# Altium footprint library GPSR_v3.PcbLib: 33 footprints (part 2 of 3)
Each footprint in its own frame and in the unit in brackets; x right, y up, seen from the top. Pads: shape width x height; smd on the part's side, far side on the other; paste and mask are expansions set on the pad; w line width, h text height; cw(c..) or ccw(c..) is an arc to the next point about the centre after c.
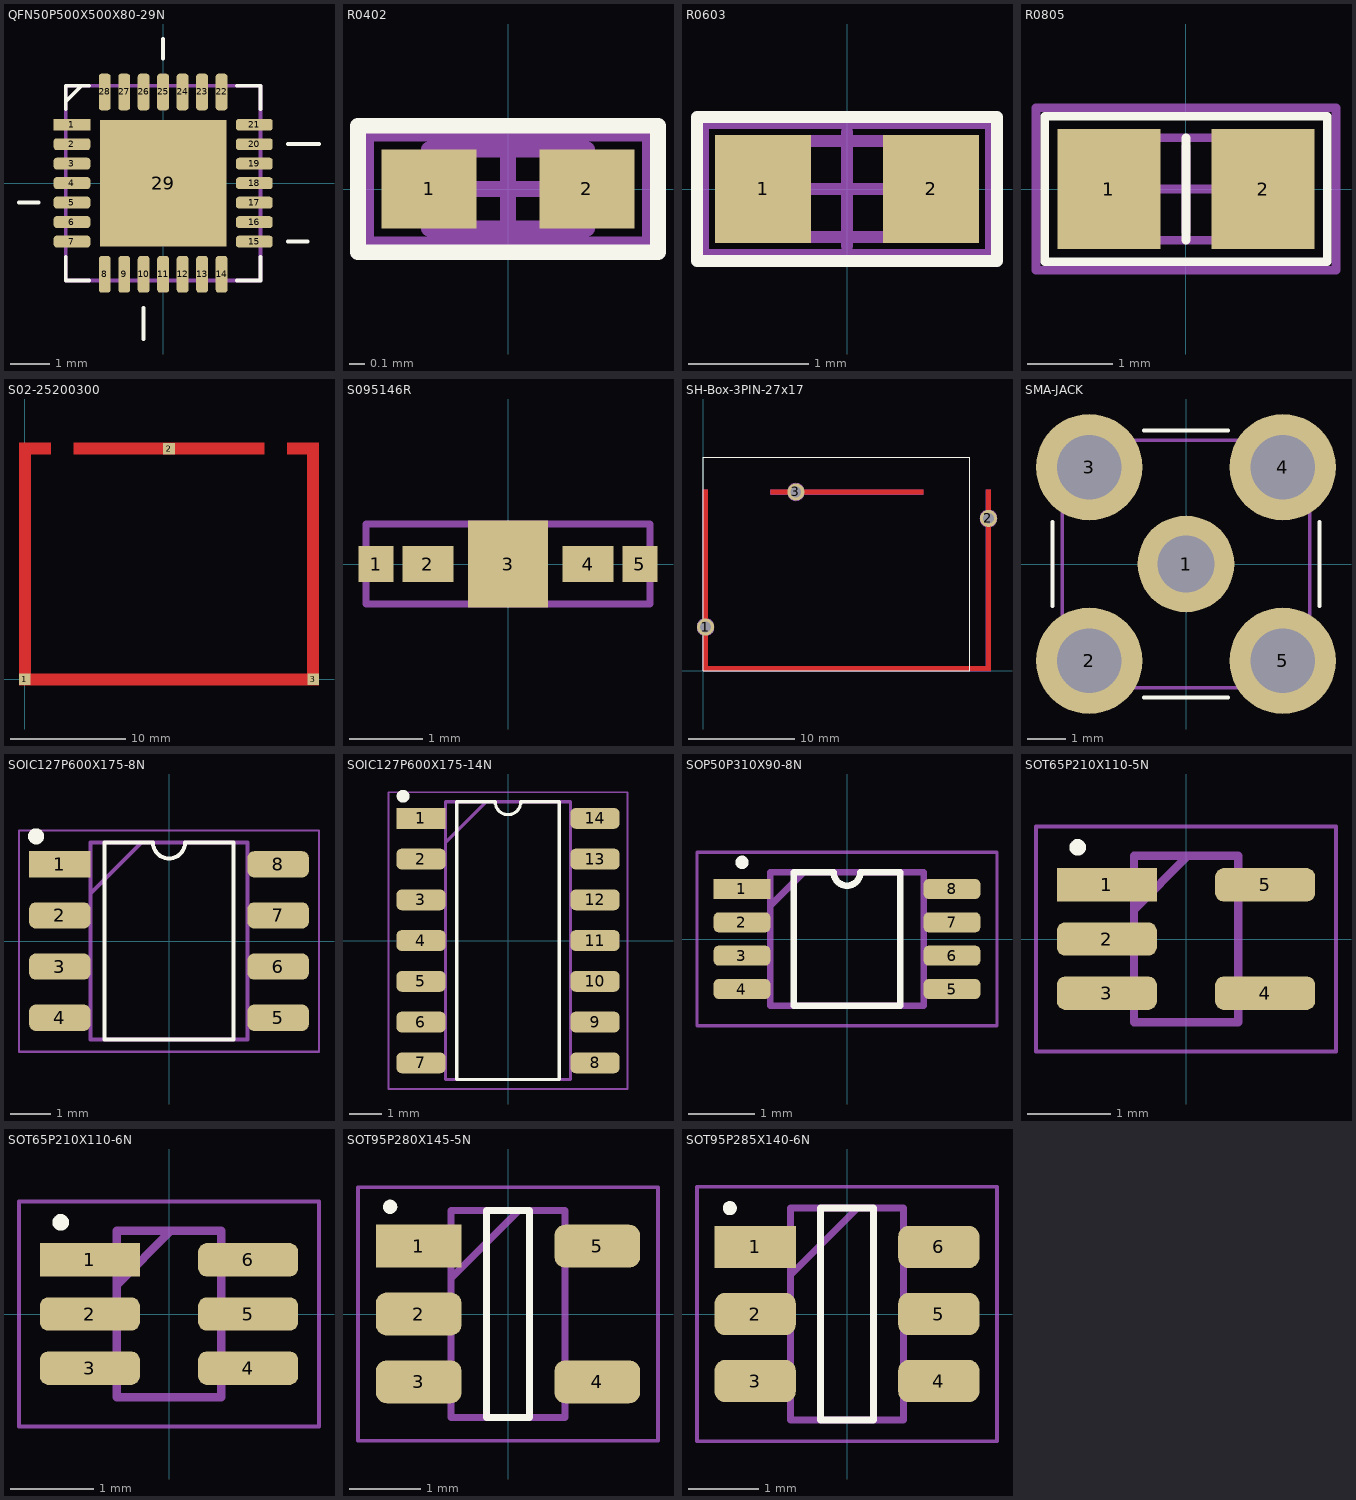
[diagram p1: the footprints below, top view; thin cyan lines are the x and y axes]

## PCBComponent_1 [mm]

## QFN50P500X500X80-29N [mil] "Small, 28-Pin, RoHS-Compliant, Thin QFN LeadFree Package (5mm x 5mm)"
height 283.46
pads (29):
  rect 37x12 smd: 1(-92.13,59.06)
  rrect50% 37x12 smd: 2(-92.13,39.37) 3(-92.13,19.68) 4(-92.13,0) 5(-92.13,-19.68) 6(-92.13,-39.37) 7(-92.13,-59.06) 15(92.13,-59.06) 16(92.13,-39.37) 17(92.13,-19.68) 18(92.13,0) 19(92.13,19.68) 20(92.13,39.37) 21(92.13,59.06)
  rrect50% 12x37 smd: 8(-59.06,-92.13) 9(-39.37,-92.13) 10(-19.68,-92.13) 11(0,-92.13) 12(19.68,-92.13) 13(39.37,-92.13) 14(59.06,-92.13) 22(59.06,92.13) 23(39.37,92.13) 24(19.68,92.13) 25(0,92.13) 26(-19.68,92.13) 27(-39.37,92.13) 28(-59.06,92.13)
  rect 128x128 smd: 29(0,0)
Top Overlay:
  lines w3.94: -145.67,-19.68 -125.98,-19.68 ; -98.43,-74.8 -98.43,-98.43 -74.8,-98.43 ; -98.43,74.8 -98.43,98.43 -74.8,98.43 ; -98.43,82.68 -82.68,98.43 ; -19.68,-157.48 -19.68,-125.98 ; 0,125.98 0,145.67 ; 74.8,-98.43 98.43,-98.43 98.43,-74.8 ; 74.8,98.43 98.43,98.43 98.43,74.8 ; 125.98,-59.06 145.67,-59.06 ; 125.98,39.37 157.48,39.37
Mechanical 13:
  lines w3.94: -98.43,-98.43 98.43,-98.43 98.43,98.43 -98.43,98.43 -98.43,-98.43
3D body: height 29.53, standoff 0, extent -98.42,-98.42 98.43,98.43

## R0402 [mm] "Chip Resistor, Body 1.0x0.5mm, IPC High Density"
height 0.35
pads (2):
  rect 0.6x0.5 smd: 1(-0.5,0) 2(0.5,0)
Top Overlay:
  lines w0.1: -0.95,-0.4 -0.95,0.4 0.95,0.4 0.95,-0.4 -0.95,-0.4
Mechanical 13:
  lines w0.1: -0.5,-0.25 0.5,-0.25 0.5,0.25 -0.5,0.25 -0.5,-0.25
Mechanical 15:
  lines w0.1: -0.3,0 0.3,0 ; 0,-0.3 0,0.3 ; -0.9,-0.35 0.9,-0.35 0.9,0.35 -0.9,0.35 -0.9,-0.35
3D body: height 0.4, standoff 0, extent -0.5,-0.25 0.5,0.25

## R0603 [mm] "Chip Resistor, Body 1.6x0.8mm, IPC High Density"
height 0.45
pads (2):
  rect 0.8x0.9 smd: 1(-0.7,0) 2(0.7,0)
Top Overlay:
  lines w0.1: -1.25,-0.6 1.25,-0.6 1.25,0.6 -1.25,0.6 -1.25,-0.6
Mechanical 13:
  lines w0.1: -0.8,-0.4 0.8,-0.4 0.8,0.4 -0.8,0.4 -0.8,-0.4
Mechanical 15:
  lines w0.1: -0.475,0 0.475,0 ; 0,-0.475 0,0.475 ; -1.2,-0.55 1.2,-0.55 1.2,0.55 -1.2,0.55 -1.2,-0.55
3D body: height 0.5, standoff 0, extent -0.787,-0.425 0.788,0.425

## R0805 [mm] "Chip Resistor, Body 2.0x1.2mm, IPC Medium Density"
height 0.7
pads (2):
  rect 1.2x1.4 smd: 1(-0.9,0) 2(0.9,0)
Top Overlay:
  lines w0.1: 0,-0.6 0,0.6 ; -1.65,-0.85 1.65,-0.85 1.65,0.85 -1.65,0.85 -1.65,-0.85
Mechanical 13:
  lines w0.1: -1,-0.6 -1,0.6 1,0.6 1,-0.6 -1,-0.6
Mechanical 15:
  lines w0.1: -0.5,0 0.5,0 ; 0,-0.5 0,0.5 ; -1.75,-0.95 -1.75,0.95 1.75,0.95 1.75,-0.95 -1.75,-0.95
3D body: height 0.6, standoff 0, extent -1,-0.625 1,0.625

## S02-25200300 [mm]
pads (3):
  rect 1x1 smd: 1(0,0) 2(12.5,20) 3(25,0)
Top Layer:
  region: 4.25,20.5 20.75,20.5 20.75,19.5 4.25,19.5
  region: 2.25,20.5 -0.5,20.5 -0.5,-0.5 25.5,-0.5 25.5,20.5 22.75,20.5 22.75,19.5 24.5,19.5 24.5,0.5 0.5,0.5 0.5,19.5 2.25,19.5

## S095146R [mm]
height 7.2
pads (5):
  rect 0.48x0.5 smd: 1(-1.81,0) 5(1.81,0)
  rect 0.7x0.5 smd: 2(-1.1,0) 4(1.1,0)
  rect 1.1x1.2 smd: 3(0,0)
Mechanical 13:
  lines w0.1: -1.95,-0.55 -1.95,0.55 1.95,0.55 1.95,-0.55 -1.95,-0.55
3D body: height 1.28, standoff 0, extent -1.95,-0.55 1.95,0.55

## SH-Box-3PIN-27x17 [mm]
height 7.2
pads (3):
  round 1.6 hole 1: 1(0.2,4.08) 2(26.76,14.28) 3(8.68,16.76)
Top Layer:
  region: 6.32,16.96 6.32,16.56 20.64,16.56 20.64,16.96
  region: 0,16.96 0,0 26.96,0 26.96,16.96 26.56,16.96 26.56,0.4 0.4,0.4 0.4,16.96
Top Overlay:
  lines w0.1: 0,0 0,20 17,20 25,20 25,0.75 25,0 0,0
Mechanical 1:
  circle w0.013: c0.2,4.08 r0.5
  circle w0.013: c26.76,14.28 r0.5
  circle w0.013: c8.68,16.76 r0.5
  lines w0.013: 0,0 26.96,0 26.96,13.505 ccw(c26.76,14.28) 26.96,15.055 26.96,16.96 26.56,16.96 26.56,15.055 ccw(c26.76,14.28) 26.56,13.505 26.56,0.4 0.4,0.4 0.4,3.305 ccw(c0.2,4.08) 0.4,4.855 0.4,16.96 0,16.96 0,4.855 ccw(c0.2,4.08) 0,3.305 0,0 ; 6.32,16.56 6.32,16.96 7.905,16.96 cw(c8.68,16.76) 9.455,16.96 20.64,16.96 20.64,16.56 9.455,16.56 cw(c8.68,16.76) 7.905,16.56 6.32,16.56

## SMA-JACK [mil]
height 283.46
pads (5):
  round 100 hole 59: 1(0,0)
  round 110 hole 67: 2(-100,-100) 3(-100,100) 4(100,100) 5(100,-100)
Top Overlay:
  lines w3.94: -137.8,-43.31 -137.8,43.31 ; -43.31,-137.8 43.31,-137.8 ; -43.31,137.8 43.31,137.8 ; 137.8,-43.31 137.8,43.31
Mechanical 13:
  lines w3.94: -127.95,-127.95 127.96,-127.95 127.96,127.96 -127.95,127.96 -127.95,-127.95
3D body: height 377.95, standoff -157.48, extent -127.95,-127.95 127.96,127.96

## SOIC127P600X175-8N [mm]
height 7.2
pads (8):
  rect 1.525x0.65 smd: 1(-2.712,1.905)
  rrect50% 1.525x0.65 smd: 2(-2.712,0.635) 3(-2.712,-0.635) 4(-2.712,-1.905) 5(2.712,-1.905) 6(2.712,-0.635) 7(2.712,0.635) 8(2.712,1.905)
Top Overlay:
  circle w0.2: c-3.3,2.6 r0.1
  lines w0.1: -1.6,-2.45 1.6,-2.45 1.6,2.45 0.4,2.45 cw(c0,2.45) -0.4,2.45 -1.6,2.45 -1.6,-2.45
Mechanical 13:
  lines w0.1: -1.95,1.18 -0.68,2.45 ; -1.95,-2.45 1.95,-2.45 1.95,2.45 -1.95,2.45 -1.95,-2.45
Mechanical 15:
  lines w0.05: -3.725,-2.75 3.725,-2.75 3.725,2.75 -3.725,2.75 -3.725,-2.75
3D body: height 1.75, standoff 0, extent -3,-2.45 3,2.45

## SOIC127P600X175-14N [mm]
height 7.2
pads (14):
  rect 1.525x0.65 smd: 1(-2.712,3.81)
  rrect50% 1.525x0.65 smd: 2(-2.712,2.54) 3(-2.712,1.27) 4(-2.712,0) 5(-2.712,-1.27) 6(-2.712,-2.54) 7(-2.712,-3.81) 8(2.712,-3.81) 9(2.712,-2.54) 10(2.712,-1.27) 11(2.712,0) 12(2.712,1.27) 13(2.712,2.54) 14(2.712,3.81)
Top Overlay:
  circle w0.2: c-3.27,4.5 r0.1
  lines w0.1: -1.6,-4.325 1.6,-4.325 1.6,4.325 0.4,4.325 cw(c0,4.325) -0.4,4.325 -1.6,4.325 -1.6,-4.325
Mechanical 13:
  lines w0.1: -1.95,3.055 -0.68,4.325 ; -1.95,-4.325 1.95,-4.325 1.95,4.325 -1.95,4.325 -1.95,-4.325
Mechanical 15:
  lines w0.05: -3.725,-4.625 3.725,-4.625 3.725,4.625 -3.725,4.625 -3.725,-4.625
3D body: height 1.75, standoff 0, extent -3.013,-4.315 3.013,4.335

## SOP50P310X90-8N [mm]
height 7.2
pads (8):
  rect 0.85x0.3 smd: 1(-1.575,0.75)
  rrect50% 0.85x0.3 smd: 2(-1.575,0.25) 3(-1.575,-0.25) 4(-1.575,-0.75) 5(1.575,-0.75) 6(1.575,-0.25) 7(1.575,0.25) 8(1.575,0.75)
Top Overlay:
  circle w0.1: c-1.575,1.15 r0.05
  lines w0.1: -0.8,-1 -0.8,1 -0.2,1 ccw(c0,1) 0.2,1 0.8,1 0.8,-1 -0.8,-1
Mechanical 13:
  lines w0.1: -1.15,0.5 -0.65,1 ; -1.15,-1 -1.15,1 1.15,1 1.15,-1 -1.15,-1
Mechanical 15:
  lines w0.05: -2.25,-1.3 -2.25,1.3 2.25,1.3 2.25,-1.3 -2.25,-1.3
3D body: height 0.77, standoff 0, extent -1.55,-1 1.55,1

## SOT65P210X110-5N [mm]
height 7.2
pads (5):
  rect 1.2x0.4 smd: 1(-0.95,0.65)
  rrect50% 1.2x0.4 smd: 2(-0.95,0) 3(-0.95,-0.65) 4(0.95,-0.65) 5(0.95,0.65)
Top Overlay:
  circle w0.1: c-1.3,1.1 r0.05
Mechanical 13:
  lines w0.1: -0.625,0.35 0.025,1 ; -0.625,-1 -0.625,1 0.625,1 0.625,-1 -0.625,-1
Mechanical 15:
  lines w0.05: -1.8,-1.35 -1.8,1.35 1.8,1.35 1.8,-1.35 -1.8,-1.35
3D body: height 1.1, standoff 0, extent -1.05,-1 1.05,1

## SOT65P210X110-6N [mm]
height 7.2
pads (6):
  rect 1.2x0.4 smd: 1(-0.95,0.65)
  rrect50% 1.2x0.4 smd: 2(-0.95,0) 3(-0.95,-0.65) 4(0.95,-0.65) 5(0.95,0) 6(0.95,0.65)
Top Overlay:
  circle w0.1: c-1.3,1.1 r0.05
Mechanical 13:
  lines w0.1: -0.625,0.35 0.025,1 ; -0.625,-1 0.625,-1 0.625,1 -0.625,1 -0.625,-1
Mechanical 15:
  lines w0.05: -1.8,-1.35 1.8,-1.35 1.8,1.35 -1.8,1.35 -1.8,-1.35
3D body: height 1.1, standoff 0, extent -1.05,-1 1.05,1

## SOT95P280X145-5N [mm]
height 7.2
pads (5):
  rect 1.2x0.6 smd: 1(-1.25,0.95)
  rrect50% 1.2x0.6 smd: 2(-1.25,0) 3(-1.25,-0.95) 4(1.25,-0.95) 5(1.25,0.95)
Top Overlay:
  circle w0.1: c-1.65,1.5 r0.05
  lines w0.1: -0.3,-1.45 -0.3,1.45 0.3,1.45 0.3,-1.45 -0.3,-1.45
Mechanical 13:
  lines w0.1: -0.8,0.5 0.15,1.45 ; -0.8,-1.45 -0.8,1.45 0.8,1.45 0.8,-1.45 -0.8,-1.45
Mechanical 15:
  lines w0.05: -2.1,-1.775 -2.1,1.775 2.1,1.775 2.1,-1.775 -2.1,-1.775
3D body: height 1.45, standoff 0, extent -1.4,-1.45 1.4,1.45

## SOT95P285X140-6N [mm]
height 7.2
pads (6):
  rect 1.15x0.6 smd: 1(-1.3,0.95)
  rrect50% 1.15x0.6 smd: 2(-1.3,0) 3(-1.3,-0.95) 4(1.3,-0.95) 5(1.3,0) 6(1.3,0.95)
Top Overlay:
  circle w0.1: c-1.66,1.5 r0.05
  lines w0.1: -0.375,-1.5 -0.375,1.5 0.375,1.5 0.375,-1.5 -0.375,-1.5
Mechanical 13:
  lines w0.1: -0.8,0.55 0.15,1.5 ; -0.8,-1.5 -0.8,1.5 0.8,1.5 0.8,-1.5 -0.8,-1.5
Mechanical 15:
  lines w0.05: -2.125,-1.8 -2.125,1.8 2.125,1.8 2.125,-1.8 -2.125,-1.8
3D body: height 1.4, standoff 0, extent -1.425,-1.5 1.425,1.5